# EAGLE library part BQ25570RGRR (library SamacSys_Parts)
Ultra Low Power Harvester Power Management IC with Boost Charger, and Nanopower Buck Converter Source: Datasheet <http://www.ti.com/lit/gpn/bq25570>
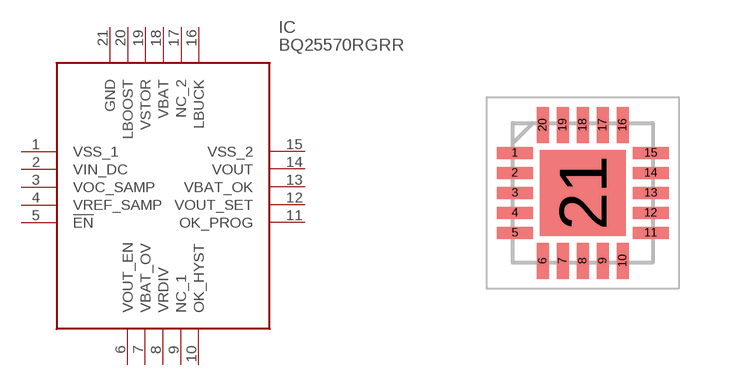
[diagram p1: symbol with the pads of QFN50P350X350X100-21N; footprint QFN50P350X350X100-21N]

Designator prefix IC

## BQ25570RGRR (Description: Ultra Low Power Harvester Power Management IC with Boost Charger, and Nanopower Buck Converter; Height: 1mm; Manufacturer_Name: Texas Instruments; Manufacturer_Part_Number: BQ25570RGRR; Mouser_Part_Number: 595-BQ25570RGRR; Mouser_Price-Stock: https://www.mouser.co.uk/ProductDetail/Texas-Instruments/BQ25570RGRR?qs=nHyvTUT5UJ%2FNZoBS3n08YQ%3D%3D)  [QFN50P350X350X100-21N]
1  VSS_1
2  VIN_DC
3  VOC_SAMP
4  VREF_SAMP
5  !EN
6  VOUT_EN
7  VBAT_OV
8  VRDIV
9  NC_1
10  OK_HYST
11  OK_PROG
12  VOUT_SET
13  VBAT_OK
14  VOUT
15  VSS_2
16  LBUCK
17  NC_2
18  VBAT
19  VSTOR
20  LBOOST
21  GND

## Footprint QFN50P350X350X100-21N (pad centres in mm)
BQ25570RGRR-1
smd 0.9 x 0.3: 1 -1.7,1; 2 -1.7,0.5; 3 -1.7,0; 4 -1.7,-0.5; 5 -1.7,-1; 11 1.7,-1; 12 1.7,-0.5; 13 1.7,0; 14 1.7,0.5; 15 1.7,1
smd 0.3 x 0.9: 6 -1,-1.7; 7 -0.5,-1.7; 8 0,-1.7; 9 0.5,-1.7; 10 1,-1.7; 16 1,1.7; 17 0.5,1.7; 18 0,1.7; 19 -0.5,1.7; 20 -1,1.7
smd 2.15 x 2.15: 21 0,0